# Altium footprint library TC3_TEST_V2.PcbLib: 2 footprints
Each footprint in its own frame and in the unit in brackets; x right, y up, seen from the top. Pads: shape width x height; smd on the part's side, far side on the other; paste and mask are expansions set on the pad; w line width, h text height; cw(c..) or ccw(c..) is an arc to the next point about the centre after c.
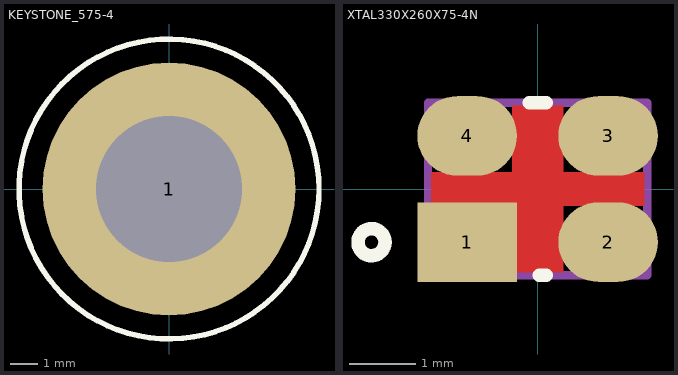
[diagram p0: the footprints below, top view; thin cyan lines are the x and y axes]

## KEYSTONE_575-4 [mil]
pads (1):
  round 370 hole 213: 1(0,0)
Top Overlay:
  circle w8: c0,0 r219.32
Mechanical 1:
  text "'.Designator'" at -130,-15 h60
Mechanical 15:
  circle w5: c0,0 r156
3D body: height 93, standoff 0, extent -155.99,-155.87 156.01,155.88
3D body: height 0, standoff -218, extent -101.5,-101.37 101.5,101.37

## XTAL330X260X75-4N [mm] "7M-12.288MEEQ-T, 12.288MHz ±10ppm Crystal 10pF 100 Ohm -20°C ~ 70°C Surface Mount 4-SMD, No Lead (DFN, LCC)"
height 0.75
pads (4):
  rect 1.5x1.2 smd mask+0.076: 1(-1.06,-0.8)
  oval 1.5x1.2 smd mask+0.076: 2(1.06,-0.8) 3(1.06,0.8) 4(-1.06,0.8)
Top Layer:
  pour cut-out: -1.6,0.254 1.6,0.254 1.6,-0.254 -1.6,-0.254
  pour cut-out: -0.381,-1.25 -0.381,1.25 0.381,1.25 0.381,-1.25
Top Overlay:
  circle w0.203: c-2.5,-0.8 r0.203
  lines w0.203: -0.127,1.3 0.127,1.3 ; 0.025,-1.3 0.127,-1.3
Mechanical 1:
  text ".Designator" at 0,0 h1.52
Mechanical 15:
  circle w0.127: c-1.06,-0.8 r0.254
  lines w0.127: -1.65,-1.3 1.65,-1.3 1.65,1.3 -1.65,1.3 -1.65,-1.3
3D body "User Library-ABM8G.step": height 1.01, standoff 0, extent -1.6,-1.25 1.6,1.25